# EAGLE library part SN74CBT16292DLR (library cape)
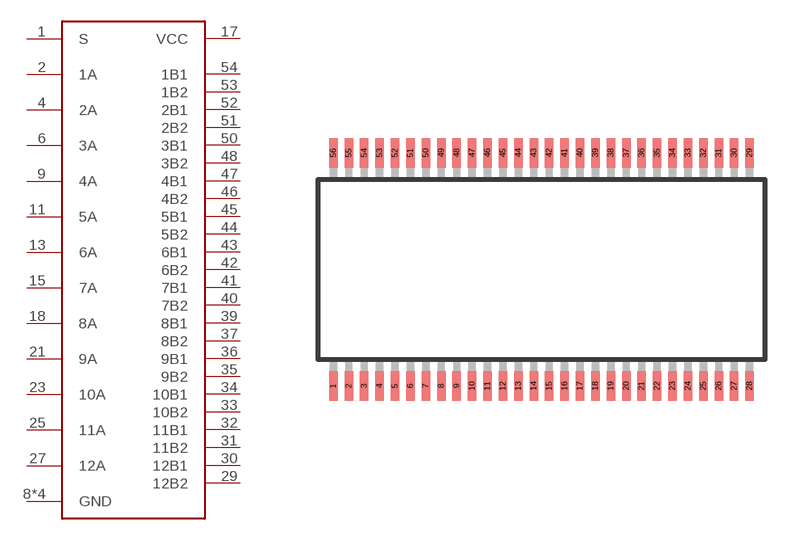
[diagram p4: symbol with the pads of SSOP56; footprint SSOP56]

Designator prefix IC

## SN74CBT16292DLRSSOP56  [SSOP56]
1  S
2  1A
4  2A
6  3A
8  GND
9  4A
11  5A
13  6A
15  7A
17  VCC
18  8A
19  GND
21  9A
23  10A
25  11A
27  12A
29  12B2
30  12B1
31  11B2
32  11B1
33  10B2
34  10B1
35  9B2
36  9B1
37  8B2
38  GND
39  8B1
40  7B2
41  7B1
42  6B2
43  6B1
44  5B2
45  5B1
46  4B2
47  4B1
48  3B2
49  GND
50  3B1
51  2B2
52  2B1
53  1B2
54  1B1

## Footprint SSOP56 (pad centres in mm)
smd 0.35 x 1.2: 1 -8.393,-5.17; 2 -7.758,-5.17; 3 -7.122,-5.17; 4 -6.487,-5.17; 5 -5.853,-5.17; 6 -5.218,-5.17; 7 -4.582,-5.17; 8 -3.947,-5.17; 9 -3.312,-5.17; 10 -2.678,-5.17; 11 -2.042,-5.17; 12 -1.407,-5.17; 13 -0.772,-5.17; 14 -0.138,-5.17; 15 0.497,-5.17; 16 1.133,-5.17; 17 1.768,-5.17; 18 2.402,-5.17; 19 3.038,-5.17; 20 3.672,-5.17; 21 4.308,-5.17; 22 4.942,-5.17; 23 5.577,-5.17; 24 6.213,-5.17; 25 6.848,-5.17; 26 7.482,-5.17; 27 8.117,-5.17; 28 8.752,-5.17; 29 8.752,4.43; 30 8.117,4.43; 31 7.482,4.43; 32 6.848,4.43; 33 6.213,4.43; 34 5.577,4.43; 35 4.942,4.43; 36 4.308,4.43; 37 3.672,4.43; 38 3.038,4.43; 39 2.402,4.43; 40 1.768,4.43; 41 1.133,4.43; 42 0.497,4.43; 43 -0.138,4.43; 44 -0.772,4.43; 45 -1.407,4.43; 46 -2.042,4.43; 47 -2.678,4.43; 48 -3.312,4.43; 49 -3.947,4.43; 50 -4.582,4.43; 51 -5.218,4.43; 52 -5.853,4.43; 53 -6.487,4.43; 54 -7.122,4.43; 55 -7.758,4.43; 56 -8.393,4.43